# EAGLE library part CY8CKIT (library chlk_bot)
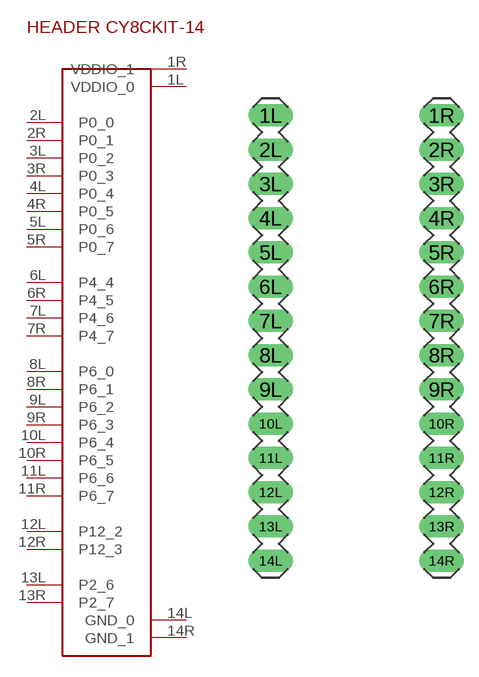
[diagram p12: symbol with the pads of 2X14-0.5"; footprint 2X14-0.5"]

Designator prefix -

## CY8CKIT  [2X14-0.5"]
1L  VDDIO_0
1R  VDDIO_1
2L  P0_0
2R  P0_1
3L  P0_2
3R  P0_3
4L  P0_4
4R  P0_5
5L  P0_6
5R  P0_7
6L  P4_4
6R  P4_5
7L  P4_6
7R  P4_7
8L  P6_0
8R  P6_1
9L  P6_2
9R  P6_3
10L  P6_4
10R  P6_5
11L  P6_6
11R  P6_7
12L  P12_2
12R  P12_3
13L  P2_6
13R  P2_7
14L  GND_0
14R  GND_1

## Footprint 2X14-0.5" (pad centres in mm)
drill 1.118 long: 1L -6.35,13.97; 1R 6.35,13.97; 2L -6.35,11.43; 2R 6.35,11.43; 3L -6.35,8.89; 3R 6.35,8.89; 4L -6.35,6.35; 4R 6.35,6.35; 5L -6.35,3.81; 5R 6.35,3.81; 6L -6.35,1.27; 6R 6.35,1.27; 7L -6.35,-1.27; 7R 6.35,-1.27; 8L -6.35,-3.81; 8R 6.35,-3.81; 9L -6.35,-6.35; 9R 6.35,-6.35; 10L -6.35,-8.89; 10R 6.35,-8.89; 11L -6.35,-11.43; 11R 6.35,-11.43; 12L -6.35,-13.97; 12R 6.35,-13.97; 13L -6.35,-16.51; 13R 6.35,-16.51; 14L -6.35,-19.05; 14R 6.35,-19.05